# Altium footprint library HyTechDevices.PCBLIB: 298 footprints (part 11 of 19)
Each footprint in its own frame and in the unit in brackets; x right, y up, seen from the top. Pads: shape width x height; smd on the part's side, far side on the other; paste and mask are expansions set on the pad; w line width, h text height; cw(c..) or ccw(c..) is an arc to the next point about the centre after c.
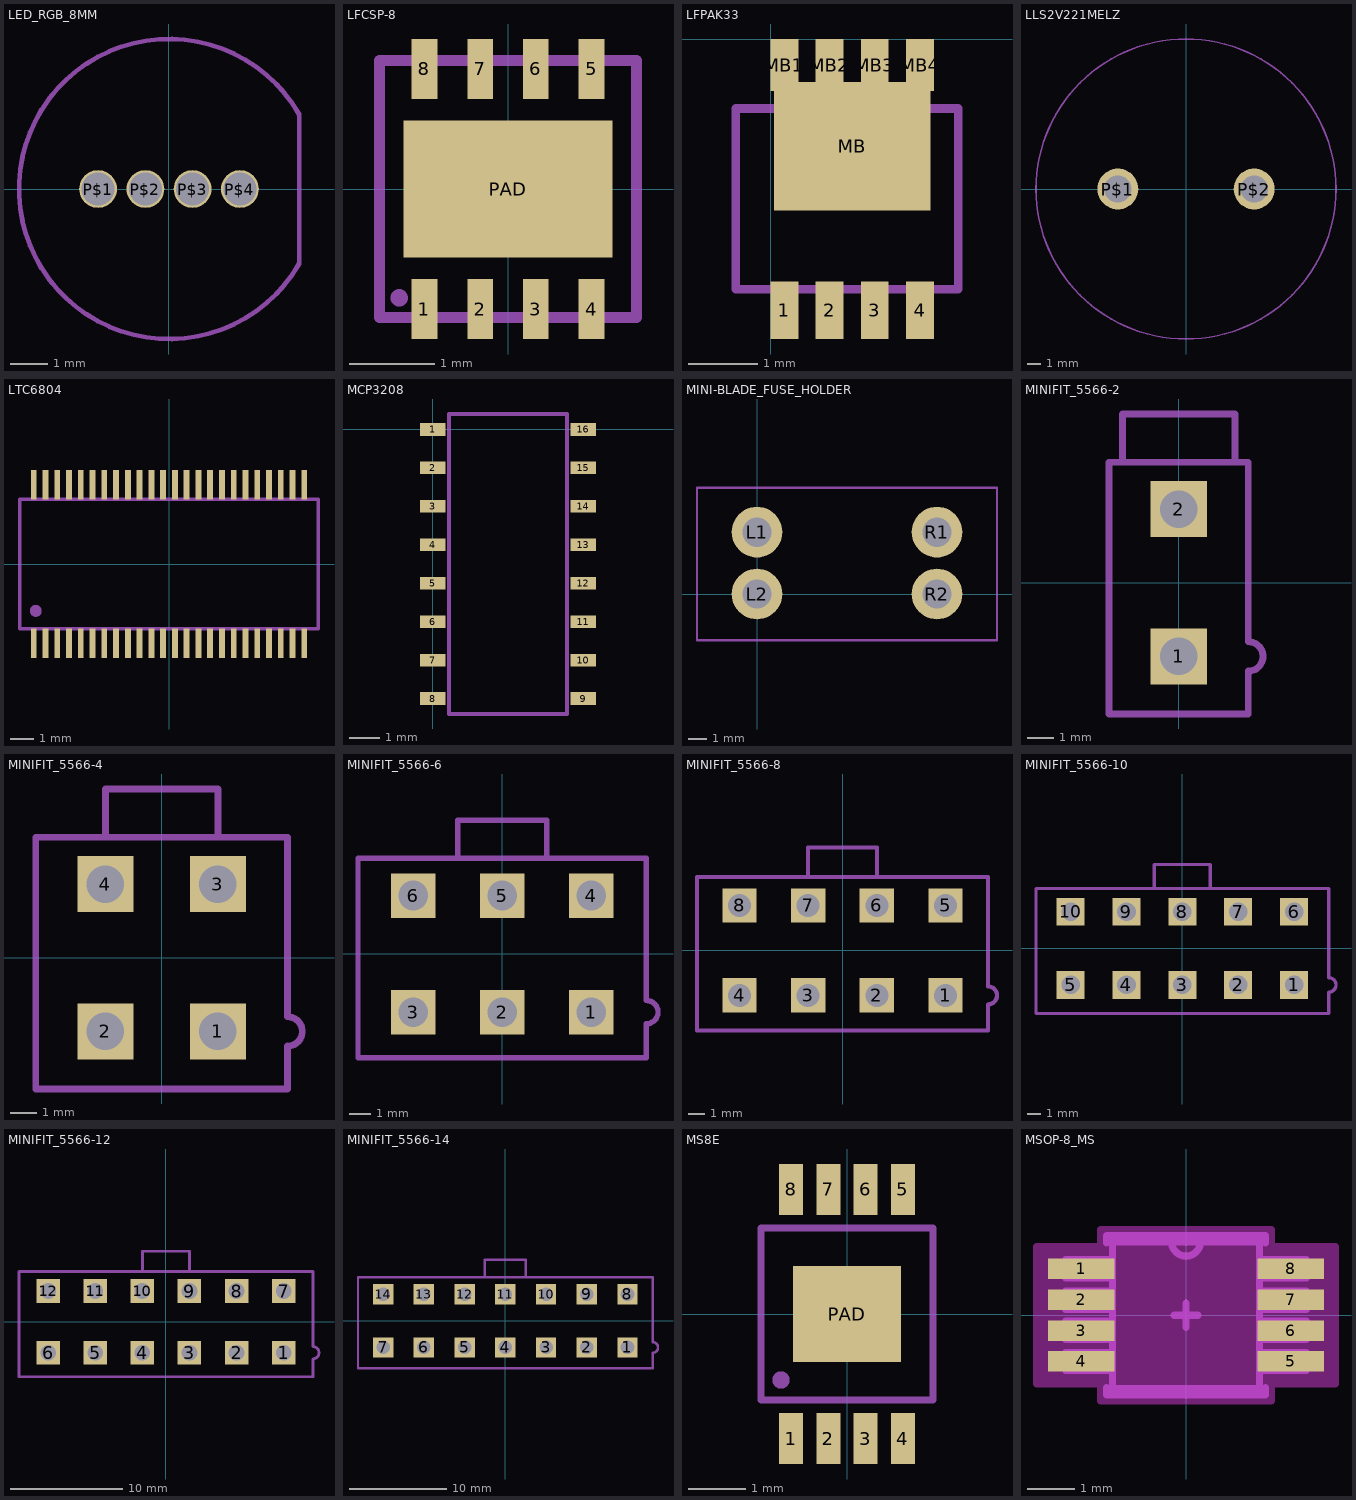
[diagram p10: the footprints below, top view; thin cyan lines are the x and y axes]

## LED_RGB_8MM [mil]
pads (4):
  round 40 hole 35: P$1(-75,0) P$2(-25,0) P$3(25,0) P$4(75,0)
Mechanical 7:
  lines w5: 137.8,-78.74 cw(c0.01,0) 137.8,78.74 137.8,-78.74

## LFCSP-8 [mil]
pads (9):
  rect 11.81x27.56 smd: 1(-38.39,-55.12) 2(-12.8,-55.12) 3(12.8,-55.12) 4(38.39,-55.12) 5(38.39,55.12) 6(12.8,55.12) 7(-12.8,55.12) 8(-38.39,55.12)
  rect 96.06x62.99 smd: PAD(0,0)
Mechanical 7:
  circle w4: c-50,-50 r2
  lines w5: -59.06,-59.06 59.06,-59.06 59.06,59.06 -59.06,59.06 -59.06,-59.06

## LFPAK33 [mm]
pads (9):
  rect 0.4x0.83 smd: 1(0.2,-3.9) 2(0.85,-3.9) 3(1.5,-3.9) 4(2.15,-3.9)
  rect 2.25x1.85 smd: MB(1.175,-1.545)
  rect 0.4x0.75 smd: MB1(0.2,-0.375) MB2(0.85,-0.375) MB3(1.5,-0.375) MB4(2.15,-0.375)
Mechanical 7:
  lines w0.127: -0.5,-3.6 2.7,-3.6 2.7,-1 -0.5,-1 -0.5,-3.6

## LLS2V221MELZ [mm]
pads (2):
  round 3 hole 2: P$1(-5,0) P$2(5,0)
Mechanical 7:
  circle w0.127: c0,0 r11

## LTC6804 [mil]
pads (48):
  rect 9.84x49.21 smd: 1(-226.38,-132.68) 2(-206.69,-132.68) 3(-187.01,-132.68) 4(-167.32,-132.68) 5(-147.64,-132.68) 6(-127.95,-132.68) 7(-108.27,-132.68) 8(-88.58,-132.68) 9(-68.9,-132.68) 10(-49.21,-132.68) 11(-29.53,-132.68) 12(-9.84,-132.68) 13(9.84,-132.68) 14(29.53,-132.68) 15(49.21,-132.68) 16(68.9,-132.68) 17(88.58,-132.68) 18(108.27,-132.68) 19(127.95,-132.68) 20(147.64,-132.68) 21(167.32,-132.68) 22(187.01,-132.68) 23(206.69,-132.68) 24(226.38,-132.68) 25(226.38,133.07) 26(206.69,133.07) 27(187.01,133.07) 28(167.32,133.07) 29(147.64,133.07) 30(127.95,133.07) 31(108.27,133.07) 32(88.58,133.07) 33(68.9,133.07) 34(49.21,133.07) 35(29.53,133.07) 36(9.84,133.07) 37(-9.84,133.07) 38(-29.53,133.07) 39(-49.21,133.07) 40(-68.9,133.07) 41(-88.58,133.07) 42(-108.27,133.07) 43(-127.95,133.07) 44(-147.64,133.07) 45(-167.32,133.07) 46(-187.01,133.07) 47(-206.69,133.07) 48(-226.38,133.07)
Mechanical 7:
  circle w10: c-222.99,-78.15 r5
  lines w6: -250,-108.27 250,-108.27 250,108.27 -250,108.27 -250,-108.27

## MCP3208 [mil]
pads (16):
  rect 33.07x16.54 smd: 1(0,0) 2(0,-50) 3(0,-100) 4(0,-150) 5(0,-200) 6(0,-250) 7(0,-300) 8(0,-350) 9(195.28,-350) 10(195.28,-300) 11(195.28,-250) 12(195.28,-200) 13(195.28,-150) 14(195.28,-100) 15(195.28,-50) 16(195.28,0)
Mechanical 3:
  lines w5: 20.87,-370.08 174.41,-370.08 174.41,20.08 20.87,20.08 20.87,-370.08
Mechanical 7:
  circle w5: c-11.42,3.94 r0.39

## MINI-BLADE_FUSE_HOLDER [mil]
pads (4):
  round 110 hole 63.5: L1(0,134) L2(0,0) R1(390,134) R2(390,0)
Mechanical 7:
  lines w5: -130,-100 -130,230 520,230 520,-100 -130,-100
  text "Mini-Blade" at 200,80 h62
  text "FUSE" at 200,20 h62

## MINIFIT_5566-2 [mil]
pads (2):
  rect 82.68x82.68 / inner round 76.39 / far side rect 82.68x82.68 hole 55.12: 1(0,-108.27) 2(0,108.27)
Top Value:
  lines w10: -82.68,181.1 -82.68,248.03 82.68,248.03 82.68,181.1
Mechanical 7:
  lines w10: -102.36,-192.91 102.36,-192.91 102.36,-129.92 ccw(c102.36,-108.27) 102.36,-86.61 102.36,177.17 -102.36,177.17 -102.36,-192.91

## MINIFIT_5566-4 [mil]
pads (4):
  rect 82.68x82.68 / inner round 76.39 / far side rect 82.68x82.68 hole 55.12: 1(82.68,-108.27) 2(-82.68,-108.27) 3(82.68,108.27) 4(-82.68,108.27)
Top Value:
  lines w10: -82.68,181.1 -82.68,248.03 82.68,248.03 82.68,181.1
Mechanical 7:
  lines w10: -185.04,-192.91 185.04,-192.91 185.04,-129.92 ccw(c185.04,-108.27) 185.04,-86.61 185.04,177.17 -185.04,177.17 -185.04,-192.91

## MINIFIT_5566-6 [mil]
pads (6):
  rect 82.68x82.68 / inner round 76.39 / far side rect 82.68x82.68 hole 55.12: 1(165.35,-108.27) 2(0,-108.27) 3(-165.35,-108.27) 4(165.35,108.27) 5(0,108.27) 6(-165.35,108.27)
Top Value:
  lines w10: -82.68,181.1 -82.68,248.03 82.68,248.03 82.68,181.1
Mechanical 7:
  lines w10: -267.72,-192.91 267.72,-192.91 267.72,-129.92 ccw(c267.72,-108.27) 267.72,-86.61 267.72,177.17 -267.72,177.17 -267.72,-192.91

## MINIFIT_5566-8 [mil]
pads (8):
  rect 82.68x82.68 / inner round 76.39 / far side rect 82.68x82.68 hole 55.12: 1(248.03,-108.27) 2(82.68,-108.27) 3(-82.68,-108.27) 4(-248.03,-108.27) 5(248.03,108.27) 6(82.68,108.27) 7(-82.68,108.27) 8(-248.03,108.27)
Top Value:
  lines w10: -82.68,181.1 -82.68,248.03 82.68,248.03 82.68,181.1
Mechanical 7:
  lines w10: -350.39,-192.91 350.39,-192.91 350.39,-129.92 ccw(c350.39,-108.27) 350.39,-86.61 350.39,177.17 -350.39,177.17 -350.39,-192.91

## MINIFIT_5566-10 [mil]
pads (10):
  rect 82.68x82.68 / inner round 76.39 / far side rect 82.68x82.68 hole 55.12: 1(330.71,-108.27) 2(165.35,-108.27) 3(0,-108.27) 4(-165.35,-108.27) 5(-330.71,-108.27) 6(330.71,108.27) 7(165.35,108.27) 8(0,108.27) 9(-165.35,108.27) 10(-330.71,108.27)
Top Value:
  lines w10: -82.68,181.1 -82.68,248.03 82.68,248.03 82.68,181.1
Mechanical 7:
  lines w10: -433.07,-192.91 433.07,-192.91 433.07,-129.92 ccw(c433.07,-108.27) 433.07,-86.61 433.07,177.17 -433.07,177.17 -433.07,-192.91

## MINIFIT_5566-12 [mil]
pads (12):
  rect 82.68x82.68 / inner round 76.39 / far side rect 82.68x82.68 hole 55.12: 1(413.39,-108.27) 2(248.03,-108.27) 3(82.68,-108.27) 4(-82.68,-108.27) 5(-248.03,-108.27) 6(-413.39,-108.27) 7(413.39,108.27) 8(248.03,108.27) 9(82.68,108.27) 10(-82.68,108.27) 11(-248.03,108.27) 12(-413.39,108.27)
Top Value:
  lines w10: -82.68,181.1 -82.68,248.03 82.68,248.03 82.68,181.1
Mechanical 7:
  lines w10: -515.75,-192.91 515.75,-192.91 515.75,-129.92 ccw(c515.75,-108.27) 515.75,-86.61 515.75,177.17 -515.75,177.17 -515.75,-192.91

## MINIFIT_5566-14 [mil]
pads (14):
  rect 82.68x82.68 / inner round 76.39 / far side rect 82.68x82.68 hole 55.12: 1(496.06,-108.27) 2(330.71,-108.27) 3(165.35,-108.27) 4(0,-108.27) 5(-165.35,-108.27) 6(-330.71,-108.27) 7(-496.06,-108.27) 8(496.06,108.27) 9(330.71,108.27) 10(165.35,108.27) 11(0,108.27) 12(-165.35,108.27) 13(-330.71,108.27) 14(-496.06,108.27)
Top Value:
  lines w10: -82.68,181.1 -82.68,248.03 82.68,248.03 82.68,181.1
Mechanical 7:
  lines w10: -598.43,-192.91 598.43,-192.91 598.43,-129.92 ccw(c598.43,-108.27) 598.43,-86.61 598.43,177.17 -598.43,177.17 -598.43,-192.91

## MS8E [mil]
pads (9):
  rect 16.54x35 smd: 1(-38.39,-85.45) 2(-12.8,-85.45) 3(12.8,-85.45) 4(38.39,-85.45) 5(38.39,85.45) 6(12.8,85.45) 7(-12.8,85.45) 8(-38.39,85.45)
  rect 74.02x66.14 smd: PAD(0,0)
Mechanical 7:
  circle w7.87: c-45.28,-45.28 r1.97
  lines w5: -59.06,-59.06 59.06,-59.06 59.06,59.06 -59.06,59.06 -59.06,-59.06

## MSOP-8_MS [mil]
pads (8):
  rect 55x17 smd: 1(-87,38.39) 2(-87,12.8) 3(-87,-12.8) 4(-87,-38.39) 5(87,-38.39) 6(87,-12.8) 7(87,12.8) 8(87,38.39)
Top Layer keep-out:
  region: -124.5,-56.89 -124.5,56.89 -71,56.89 -71,71 71,71 71,56.89 124.5,56.89 124.5,-56.89 71,-56.89 71,-71 -71,-71 -71,-56.89
  lines w6: -124,-57 -124,57 -71,57 -71,71 71,71 71,57 124,57 124,-57 71,-57 71,-71 -71,-71 -71,-57 -124,-57
Mechanical 3:
  lines w6: -12,61 12,61 ; -12,61 -61,61 -61,-61 61,-61 61,61 12,61 ; -12,61 ccw(c0,61) 12,61 ; -100,-46 -100,-31 -61,-31 -61,-46 -100,-46 ; -100,-20 -100,-5 -61,-5 -61,-20 -100,-20 ; -100,5 -100,20 -61,20 -61,5 -100,5 ; -100,31 -100,46 -61,46 -61,31 -100,31 ; 61,-46 61,-31 100,-31 100,-46 61,-46 ; 61,-20 61,-5 100,-5 100,-20 61,-20 ; 61,5 61,20 100,20 100,5 61,5 ; 61,31 61,46 100,46 100,31 61,31
  text "*" at -69,8 h77.5
Mechanical 7:
  lines w6: -66,-60 -66,-66 66,-66 66,-60 ; -66,60 -66,66 66,66 66,60
  text "*" at -120,50 h77.5
Top Component Center:
  lines w6: -10,0 10,0 ; 0,-10 0,10